# EAGLE library part 74*237 (library 1A-meinLib)
1-of-8 Decoder/Multiplexer with Address Latch
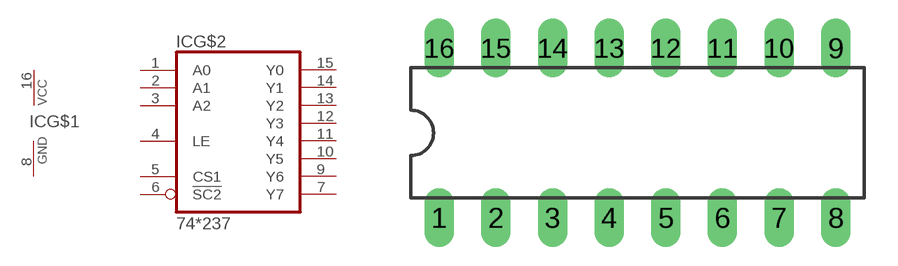
[diagram p381: symbol with the pads of DIL16; footprint DIL16]

Designator prefix IC; gates G$1=PWRN G$2=74237

## 74237  [DIL16]
1  G$2:A0  in
2  G$2:A1  in
3  G$2:A2  in
4  G$2:LE  in
5  G$2:CS1  in
6  G$2:!SC2  in
7  G$2:Y7  out
8  G$1:GND  pwr
9  G$2:Y6  out
10  G$2:Y5  out
11  G$2:Y4  out
12  G$2:Y3  out
13  G$2:Y2  out
14  G$2:Y1  out
15  G$2:Y0  out
16  G$1:VCC  pwr

## Footprint DIL16 (pad centres in mm)
Dual In Line Package
drill 0.813 long: 1 -8.89,-3.81; 2 -6.35,-3.81; 3 -3.81,-3.81; 4 -1.27,-3.81; 5 1.27,-3.81; 6 3.81,-3.81; 7 6.35,-3.81; 8 8.89,-3.81; 9 8.89,3.81; 10 6.35,3.81; 11 3.81,3.81; 12 1.27,3.81; 13 -1.27,3.81; 14 -3.81,3.81; 15 -6.35,3.81; 16 -8.89,3.81